# Altium footprint library MEGA.PcbLib: 237 footprints (part 13 of 15)
Each footprint in its own frame and in the unit in brackets; x right, y up, seen from the top. Pads: shape width x height; smd on the part's side, far side on the other; paste and mask are expansions set on the pad; w line width, h text height; cw(c..) or ccw(c..) is an arc to the next point about the centre after c.
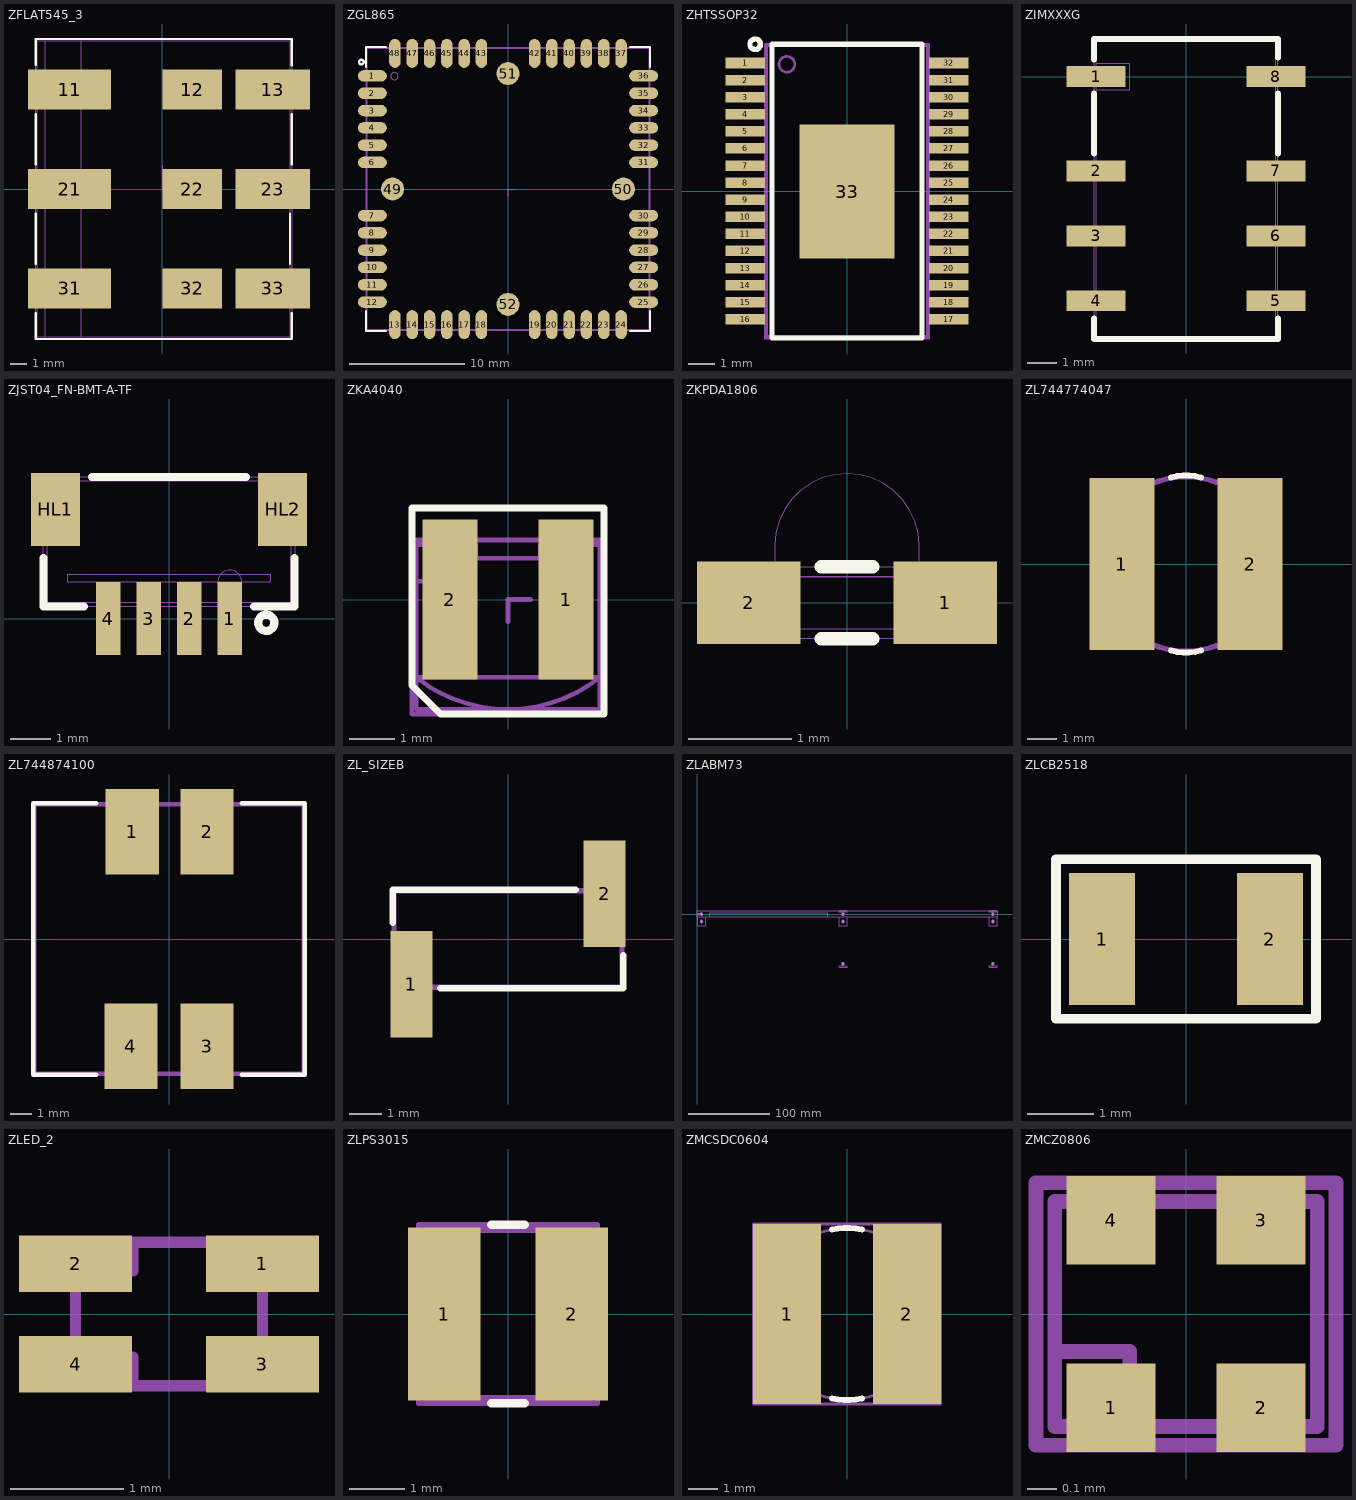
[diagram p12: the footprints below, top view; thin cyan lines are the x and y axes]

## ZFLAT545_3 [mm]
pads (9):
  rect 5x2.4 smd paste-0.375 mask+0.05: 11(-5.6,6) 21(-5.6,0) 31(-5.6,-6)
  rect 3.6x2.4 smd paste-0.27 mask+0.05: 12(1.8,6) 22(1.8,0) 32(1.8,-6)
  rect 4.5x2.4 smd paste-0.335 mask+0.05: 13(6.65,6) 23(6.65,0) 33(6.65,-6)
Top Overlay:
  lines w0.15: -7.65,-7.5 -7.65,-9.05 7.8,-9.05 7.8,-7.5 ; -7.65,-4.5 -7.65,-1.5 ; -7.65,1.5 -7.65,4.5 ; -7.65,7.5 -7.65,9.05 7.8,9.05 7.8,7.475 ; 7.7,-4.5 7.7,-1.5 ; 7.8,1.5 7.8,4.5
Mechanical 15:
  lines w0.01: -7.1,-8.95 -7.1,8.95 ; -4.9,-8.95 -4.9,8.95 ; -7.55,-8.95 7.7,-8.95 7.7,8.95 -7.55,8.95 -7.55,-8.95
Mechanical 19:
  lines w0.01: 0,1.43 0,0 1.27,0
Mechanical 20:
  lines w0.01: -7.65,-9.05 7.8,-9.05 7.8,9.05 -7.65,9.05 -7.65,-9.05

## ZGL865 [mm]
pads (52):
  oval 2.5x1 smd paste-0.19 mask+0.05: 1(-11.747,9.8) 2(-11.747,8.3) 3(-11.747,6.8) 4(-11.747,5.3) 5(-11.747,3.8) 6(-11.747,2.3) 7(-11.747,-2.3) 8(-11.747,-3.8) 9(-11.747,-5.3) 10(-11.747,-6.8) 11(-11.747,-8.3) 12(-11.747,-9.8) 25(11.747,-9.8) 26(11.747,-8.3) 27(11.747,-6.8) 28(11.747,-5.3) 29(11.747,-3.8) 30(11.747,-2.3) 31(11.747,2.3) 32(11.747,3.8) 33(11.747,5.3) 34(11.747,6.8) 35(11.747,8.3) 36(11.747,9.8)
  oval 1x2.5 smd paste-0.19 mask+0.05: 13(-9.8,-11.747) 14(-8.3,-11.747) 15(-6.8,-11.747) 16(-5.3,-11.747) 17(-3.8,-11.747) 18(-2.3,-11.747) 19(2.3,-11.747) 20(3.8,-11.747) 21(5.3,-11.747) 22(6.8,-11.747) 23(8.3,-11.747) 24(9.8,-11.747) 37(9.8,11.747) 38(8.3,11.747) 39(6.8,11.747) 40(5.3,11.747) 41(3.8,11.747) 42(2.3,11.747) 43(-2.3,11.747) 44(-3.8,11.747) 45(-5.3,11.747) 46(-6.8,11.747) 47(-8.3,11.747) 48(-9.8,11.747)
  round 2 smd paste-0.15 mask+0.05: 49(-10,0) 50(10,0) 51(0,10) 52(0,-10)
Top Overlay:
  circle w0.2: c-12.7,11 r0.2
  lines w0.2: -12.3,-10.6 -12.3,-12.3 -10.6,-12.3 ; -12.3,10.6 -12.3,12.3 -10.6,12.3 ; 10.6,-12.3 12.3,-12.3 12.3,-10.6 ; 10.6,12.3 12.3,12.3 12.3,10.6
Mechanical 15:
  circle w0.01: c-9.842,9.779 r0.318
  lines w0.01: -12.2,-12.2 12.2,-12.2 12.2,12.2 -12.2,12.2 -12.2,-12.2
Multi-Layer:
  text "Value" at -0.873,-2.832 h0.75
Mechanical 19:
  lines w0.01: 0,-0.635 0,0 0.635,0
Mechanical 20:
  lines w0.01: -12.3,-12.3 12.3,-12.3 12.3,12.3 -12.3,12.3 -12.3,-12.3

## ZHTSSOP32 [mm]
height 1.75
pads (33):
  rect 1.5x0.4 smd paste-0.115 mask+0.05: 1(-3.873,4.875) 2(-3.873,4.225) 3(-3.873,3.575) 4(-3.873,2.925) 5(-3.873,2.275) 6(-3.873,1.625) 7(-3.873,0.975) 8(-3.873,0.325) 9(-3.873,-0.325) 10(-3.873,-0.975) 11(-3.873,-1.625) 12(-3.873,-2.275) 13(-3.873,-2.925) 14(-3.873,-3.575) 15(-3.873,-4.225) 16(-3.873,-4.875) 17(3.873,-4.875) 18(3.873,-4.225) 19(3.873,-3.575) 20(3.873,-2.925) 21(3.873,-2.275) 22(3.873,-1.625) 23(3.873,-0.975) 24(3.873,-0.325) 25(3.873,0.325) 26(3.873,0.975) 27(3.873,1.625) 28(3.873,2.275) 29(3.873,2.925) 30(3.873,3.575) 31(3.873,4.225) 32(3.873,4.875)
  rect 3.6x5.1 smd paste-0.4 mask+0.05: 33(0,-0.015)
Top Overlay:
  circle w0.2: c-3.492,5.588 r0.2
  lines w0.2: -2.857,-5.588 2.857,-5.588 2.857,5.588 -2.857,5.588 -2.857,-5.588
Mechanical 15:
  circle w0.1: c-2.286,4.826 r0.3
  lines w0.1: -3.048,-5.524 3.048,-5.524 3.048,5.524 -3.048,5.524 -3.048,-5.524
Multi-Layer:
  text "Value" at -1.299,-0.298 h0.75
Mechanical 20:
  lines w0.1: -3.111,-5.588 3.111,-5.588 3.111,5.588 -3.111,5.588 -3.111,-5.588

## ZIMXXXG [mm]
pads (8):
  rect 2x0.7 smd paste-0.15 mask+0.05: 1(-3.048,0) 2(-3.048,-3.2) 3(-3.048,-5.4) 4(-3.048,-7.6) 5(3.048,-7.6) 6(3.048,-5.4) 7(3.048,-3.2) 8(3.048,0)
Top Overlay:
  lines w0.2: -3.111,-8.191 -3.111,-8.89 3.111,-8.89 3.111,-8.191 ; -3.111,-2.603 -3.111,-0.572 ; -3.111,0.572 -3.111,1.27 3.111,1.27 3.111,0.635 ; 3.111,-2.603 3.111,-0.572
Mechanical 15:
  lines w0.01: -3.048,-8.826 -3.048,1.2 3.048,1.2 3.048,-8.826 -3.048,-8.826 ; -3.048,-0.445 -3.048,0.445 -1.905,0.445 -1.905,-0.445 -3.048,-0.445
Multi-Layer:
  text "Value" at 1.484,-5.139 h0.75
Mechanical 20:
  lines w0.01: -3.111,-8.89 -3.111,1.27 3.111,1.27 3.111,-8.89 -3.111,-8.89
3D body "IM43GR--3DModel-STEP-269445.STEP": height 5.85, standoff 0, extent -3.75,-8.81 3.75,1.19

## ZJST04_FN-BMT-A-TF [mm]
pads (6):
  rect 0.6x1.8 smd paste-0.135 mask+0.05: 1(1.5,0) 2(0.5,0) 3(-0.5,0) 4(-1.5,0)
  rect 1.2x1.8 smd paste-0.135 mask+0.05: HL1(-2.8,2.7) HL2(2.8,2.7)
Top Overlay:
  circle w0.2: c2.4,-0.1 r0.2
  lines w0.2: -3.1,1.5 -3.1,0.3 -2.1,0.3 ; -1.9,3.5 1.9,3.5 ; 2.1,0.3 3.1,0.3 3.1,1.5
Mechanical 15:
  circle w0.01: c1.5,0.9 r0.3
  lines w0.01: -3,0.4 3,0.4 3,3.4 -2.3,3.4 -3,2.7 -3,0.4 ; -2.5,0.9 2.5,0.9 2.5,1.1 -2.5,1.1 -2.5,0.9
Mechanical 20:
  lines w0.01: -3.1,0.3 3.1,0.3 3.1,3.5 -3.1,3.5 -3.1,0.3

## ZKA4040 [mm]
height 4
pads (2):
  rect 1.2x3.5 smd paste-0.265 mask+0.05: 1(1.27,0) 2(-1.27,0)
Top Overlay:
  lines w0.15: -2.1,-1.875 -1.475,-2.5 2.1,-2.5 2.1,2 -2.1,2 -2.1,-1.875
Mechanical 15:
  lines w0.1: -2,-1.7 2,-1.7 ; -2,0.4 -1.2,0.4 -1.2,1.2 ; -1.999,-1.706 ccw(c0,0.825) 2.003,-1.702 ; -2,-2.4 -2,1.2 -0.7,1.2 -0.7,0.9 0.7,0.9 0.7,1.2 2,1.2 2,-2.4 -2,-2.4
Multi-Layer:
  text "Value" at -1.115,-1.756 h0.6
Mechanical 19:
  lines w0.1: 0,-0.486 0,0 0.5,0
Mechanical 20:
  lines w0.1: -2.1,-2.5 2.1,-2.5 2.1,1.3 -2.1,1.3 -2.1,-2.5

## ZKPDA1806 [mm]
pads (2):
  rect 1x0.8 smd paste-0.075 mask+0.05: 1(0.953,0) 2(-0.953,0)
Top Overlay:
  lines w0.13: -0.25,-0.35 0.25,-0.35 ; -0.25,0.35 0.25,0.35
Mechanical 15:
  lines w0.01: -0.75,-0.25 -0.75,0.25 ; -0.7,0.555 -0.7,0.25 0.7,0.25 0.7,0.555 ccw(c0,0.55) -0.7,0.556 ; -0.9,-0.25 0.9,-0.25 0.9,0.25 -0.9,0.25 -0.9,-0.25
Multi-Layer:
  text "Value" at -0.824,-0.755 h0.5
Mechanical 20:
  lines w0.01: -1,-0.35 1,-0.35 1,0.35 -1,0.35 -1,-0.35

## ZL744774047 [mm]
pads (2):
  rect 2.2x5.8 smd paste-0.435 mask+0.05: 1(-2.159,0) 2(2.159,0)
Top Overlay:
  lines w0.2: -0.51,2.921 cw(c0,0.921) 0.506,2.921 ; -0.506,-2.921 ccw(c0,-0.952) 0.509,-2.92
Mechanical 15:
  circle w0.1: c0,0 r2.9
Multi-Layer:
  text "Value" at -1.235,-0.298 h0.75
Mechanical 20:
  circle w0.1: c0,0 r2.984

## ZL744874100 [mm]
pads (4):
  rect 2.5x4 smd paste-0.3 mask+0.05: 1(-1.714,5.016) 2(1.778,5.016) 3(1.778,-5.016) 4(-1.778,-5.016)
Top Overlay:
  lines w0.2: -3.4,-6.35 -6.35,-6.35 -6.35,6.35 -3.4,6.35 ; 3.4,-6.35 6.35,-6.35 6.35,6.35 3.4,6.35
Mechanical 15:
  lines w0.1: -6.25,-6.25 6.25,-6.25 6.25,6.25 -6.25,6.25 -6.25,-6.25
Mechanical 20:
  lines w0.1: -6.35,-6.35 6.35,-6.35 6.35,6.35 -6.35,6.35 -6.35,-6.35

## ZL_SIZEB [mm]
pads (2):
  rect 1.3x3.3 smd paste-0.25 mask+0.1: 1(-2.984,-1.397) 2(2.984,1.397)
Top Overlay:
  lines w0.2: -3.556,0.508 -3.556,1.524 2.095,1.524 ; -2.095,-1.524 3.556,-1.524 3.556,-0.508
Mechanical 15:
  lines w0.1: -3.492,-1.46 3.492,-1.46 3.492,1.46 -3.492,1.46 -3.492,-1.46
Multi-Layer:
  text "Value" at -1.299,-1.25 h0.75
Mechanical 20:
  lines w0.1: -3.556,-1.524 3.556,-1.524 3.556,1.524 -3.556,1.524 -3.556,-1.524

## ZLABM73 [mm]
pads (8):
  round 0 hole 3.2 unplated: HL1(5,-9) HL2(179.6,-9) HL3(364.6,-9) HL4(179.6,0) HL5(364.6,0) HL6(179.6,-61.2) HL7(364.6,-61.2) HL8(5,0)
Mechanical 15:
  circle w0.1: c5,-9 r1.6
  circle w0.1: c364.6,0 r1.6
  circle w0.1: c364.6,-9 r1.6
  circle w0.1: c179.6,0 r1.6
  circle w0.1: c179.6,-9 r1.6
  circle w0.1: c179.6,-61.2 r1.6
  circle w0.1: c364.6,-61.2 r1.6
  circle w0.1: c5,0 r1.6
  lines w0.1: 10,-4 10,-14 0,-14 0,-4 ; 15,-4 15,2 160,2 160,-4 ; 174.6,-4 174.6,-14 184.6,-14 184.6,-4 ; 359.6,-4 359.6,-14 369.6,-14 369.6,-4 ; 0,-4 369.6,-4 ; 0,-4 0,4 369.6,4 ; 369.6,-4 369.6,4 ; 369.6,4 369.6,3 359.6,3 359.6,4 369.6,4 ; 174.6,-65.2 184.6,-65.2 184.6,-64.2 174.6,-64.2 174.6,-65.2 ; 174.6,3 184.6,3 184.6,4 174.6,4 174.6,3 ; 359.6,-65.2 369.6,-65.2 369.6,-64.2 359.6,-64.2 359.6,-65.2
  text "KABELY" at 120.924,-0.525 h0.75
  text "DRAZKA" at 177.506,5.675 h0.75
  text "DRAZKA" at 363.006,5.475 h0.75
  text "DRAZKA" at 362.406,-66.625 h0.75
  text "DRAZKA" at 177.806,-66.725 h0.75
Multi-Layer:
  text "Value" at 25.965,-0.325 h0.75
Mechanical 19:
  lines w0.1: -0.5,0 0,0 0,-0.5
Mechanical 20:
  lines w0.1: 0,-1 2,-1 2,1 0,1 0,-1

## ZLCB2518 [mm]
pads (2):
  rect 1x2 smd paste-0.15 mask+0.05: 1(-1.27,0) 2(1.27,0)
Top Overlay:
  lines w0.15: -1.968,-1.206 1.968,-1.206 1.968,1.206 -1.968,1.206 -1.968,-1.206
Mechanical 15:
  lines w0.01: -1.905,-1.143 1.905,-1.143 1.905,1.143 -1.905,1.143 -1.905,-1.143
Multi-Layer:
  text "Value" at -0.988,-0.94 h0.6
Mechanical 20:
  lines w0.01: -1.968,-1.206 1.968,-1.206 1.968,1.206 -1.968,1.206 -1.968,-1.206

## ZLED_2 [mm]
pads (4):
  rect 1x0.5 smd paste-0.075 mask+0.05: 1(0.826,0.445) 2(-0.826,0.445) 3(0.826,-0.445) 4(-0.826,-0.445)
Mechanical 15:
  lines w0.1: -0.826,-0.635 0.826,-0.635 0.826,0.635 -0.826,0.635 ; -0.826,-0.635 -0.826,0.635 ; -0.826,-0.635 -0.318,-0.635 -0.318,-0.381 -0.826,-0.381 -0.826,-0.635 ; -0.826,0.635 -0.318,0.635 -0.318,0.381 -0.826,0.381 -0.826,0.635

## ZLPS3015 [mm]
pads (2):
  rect 1.3x3.1 smd paste-0.25 mask+0.05: 1(-1.143,0) 2(1.143,0)
Top Overlay:
  lines w0.15: -0.3,-1.6 0.3,-1.6 ; -0.3,1.6 0.3,1.6
Mechanical 15:
  lines w0.1: -1.5,-1.5 1.5,-1.5 1.5,1.5 -1.5,1.5 -1.5,-1.5
Mechanical 20:
  lines w0.1: -1.6,-1.6 1.6,-1.6 1.6,1.6 -1.6,1.6 -1.6,-1.6

## ZMCSDC0604 [mm]
pads (2):
  rect 2.3x6.1 smd paste-0.46 mask+0.05: 1(-2.032,0) 2(2.032,0)
Top Overlay:
  lines w0.2: -0.51,2.857 cw(c0,0.857) 0.506,2.858 ; -0.506,-2.858 ccw(c0,-0.889) 0.509,-2.857
Mechanical 15:
  circle w0.1: c0,0 r2.9
Mechanical 20:
  lines w0.1: -3.175,-3.048 -3.175,3.048 3.175,3.048 3.175,-3.048 -3.175,-3.048
3D body "SRN5040 series.stp": height 3.45, standoff 0.01, extent -2.5,-2.51 2.502,2.51

## ZMCZ0806 [mm]
pads (4):
  rect 0.3x0.3 smd paste-0.025 mask+0.05: 1(-0.254,-0.318) 2(0.254,-0.318) 3(0.254,0.318) 4(-0.254,0.318)
Mechanical 15:
  lines w0.05: -0.445,-0.127 -0.191,-0.127 -0.191,-0.381 ; -0.445,-0.381 0.445,-0.381 0.445,0.381 -0.445,0.381 -0.445,-0.381
Multi-Layer:
  text "Value" at -0.659,-0.352 h0.4
Mechanical 20:
  lines w0.05: -0.508,-0.445 0.508,-0.445 0.508,0.445 -0.508,0.445 -0.508,-0.445